# Altium footprint library RCDQLY.PCBLIB: 122 footprints (part 3 of 8)
Each footprint in its own frame and in the unit in brackets; x right, y up, seen from the top. Pads: shape width x height; smd on the part's side, far side on the other; paste and mask are expansions set on the pad; w line width, h text height; cw(c..) or ccw(c..) is an arc to the next point about the centre after c.
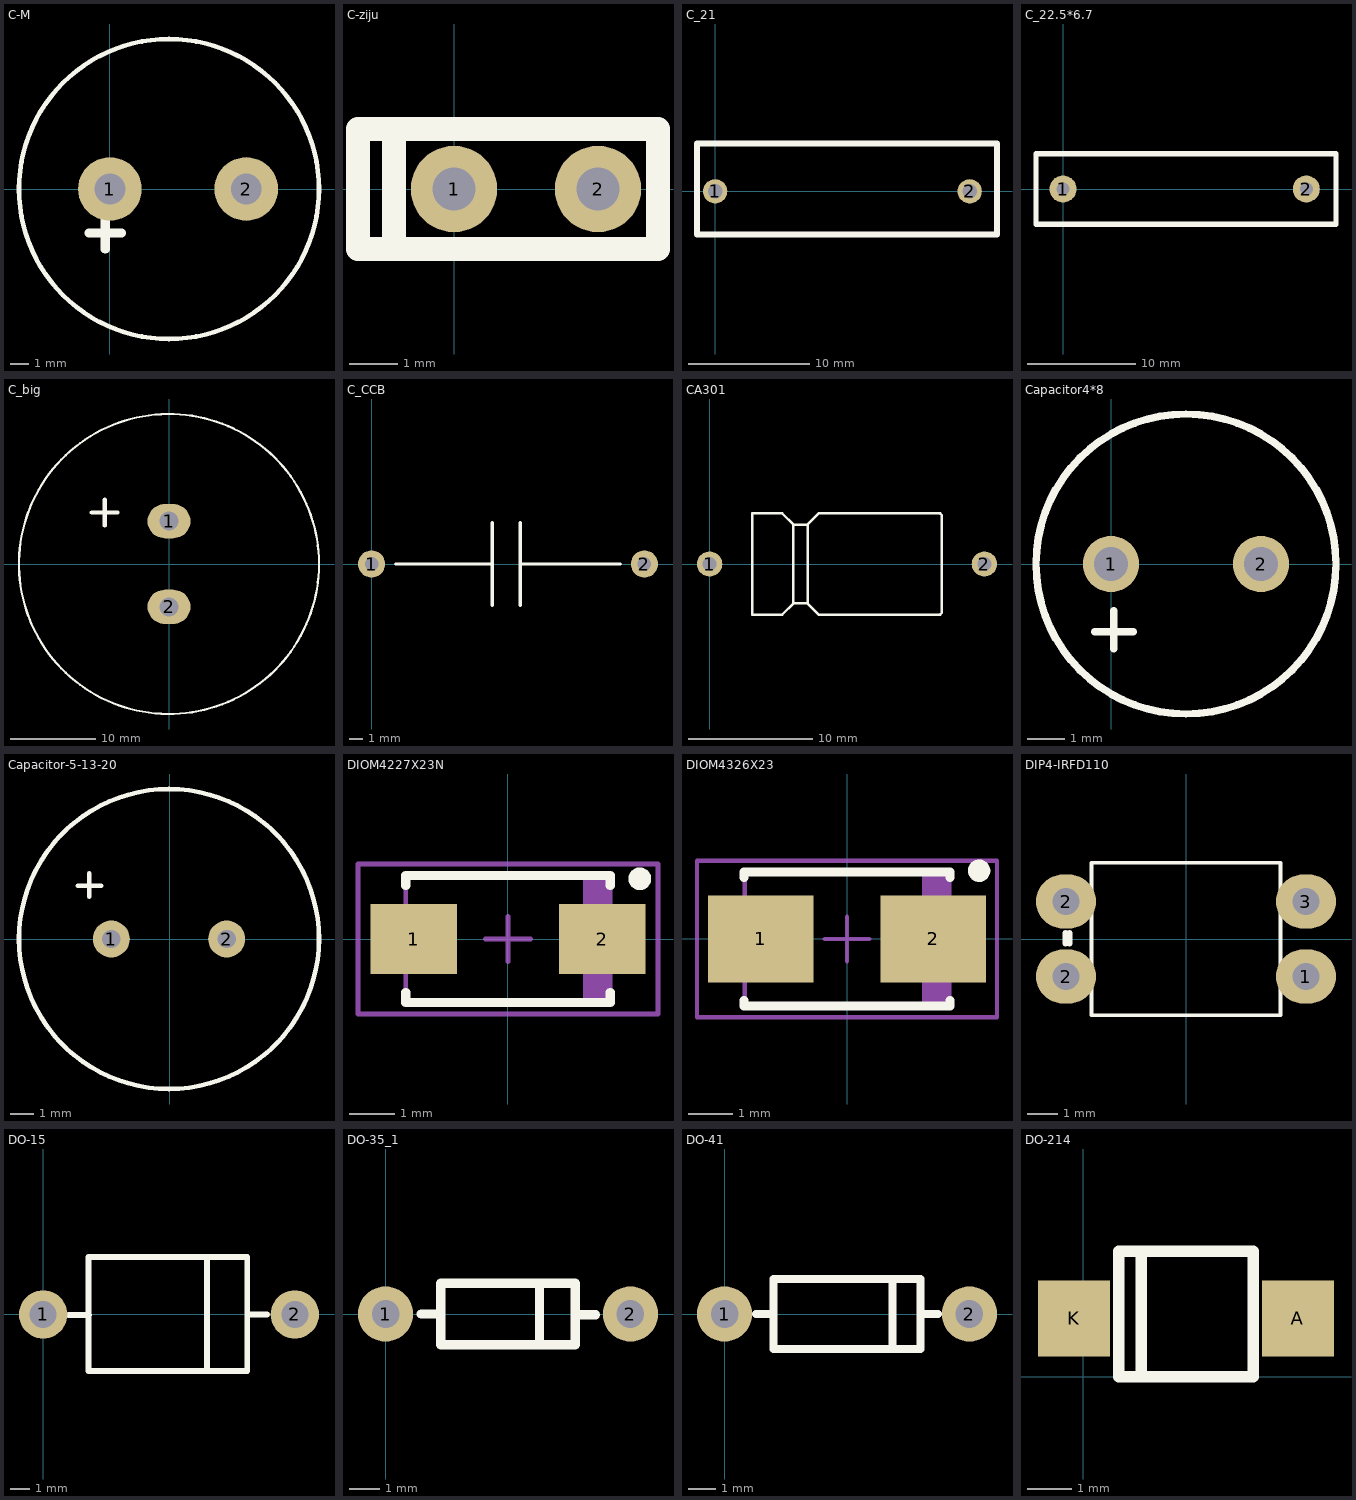
[diagram p2: the footprints below, top view; thin cyan lines are the x and y axes]

## C-M [mm]
pads (2):
  round 3.5 hole 1.7: 1(0,0) 2(7.5,0)
TopOverlay:
  circle w0.254: c3.25,0 r8.25
  lines w0.5: -1.143,-2.413 0.635,-2.413 ; -0.254,-3.302 -0.254,-1.524

## C-ziju [mm]
pads (2):
  round 1.8 hole 0.9: 1(0,0) 2(3,0)
TopOverlay:
  lines w0.5: -2,-1.25 -1.25,-1.25 ; -2,-1.25 -1.25,-1.25 ; -2,-1.25 -2,1.25 -1.25,1.25 ; -1.25,-1.25 -1.25,1.25 ; -1.25,-1.25 4.25,-1.25 4.25,1.25 -1.25,1.25

## C_21 [mm]
pads (2):
  round 2 hole 1.2: 1(0,0) 2(21,0)
TopOverlay:
  lines w0.5: -1.5,-3.556 23.25,-3.556 23.25,3.937 -1.5,3.937 -1.5,-3.556

## C_22.5*6.7 [mm]
pads (2):
  round 2.5 hole 1.2: 1(0,0) 2(22.5,0)
TopOverlay:
  lines w0.5: -2.5,-3.25 -2.5,3.25 25.25,3.25 25.25,-3.25 -2.5,-3.25

## C_big [mm]
pads (2):
  oval 5x4 hole 2.2: 1(0,5) 2(0,-5)
TopOverlay:
  circle w0.254: c0,0 r17.5
  lines w0.5: -9,6 -6,6 ; -7.5,4.5 -7.5,7.5

## C_CCB [mm]
pads (2):
  round 2 hole 1: 1(0,0) 2(20.066,0)
TopOverlay:
  lines w0.254: 1.778,0 8.89,0 ; 8.89,-3.048 8.89,3.048 ; 10.922,-3.048 10.922,3.048 ; 10.922,0 18.288,0

## CA301 [mil]
pads (2):
  round 80 hole 45: 1(0,0) 2(870,0)
TopOverlay:
  lines w8: 265,-115 265,-125 ; 265,-125 310,-125 ; 265,-125 265,125 ; 265,-125 230,-160 135,-160 135,160 230,160 265,125 ; 265,125 305,125 310,125 ; 310,-125 345,-160 730,-160 735,-155 735,155 730,160 345,160 310,125 ; 310,-125 310,125

## Capacitor4*8 [mm]
pads (2):
  round 1.5 hole 0.9: 1(0,0) 2(4,0)
TopOverlay:
  circle w0.2: c2,0 r4
  lines w0.2: -0.429,-1.803 0.587,-1.803 ; 0.076,-2.261 0.076,-1.245

## Capacitor-5-13-20 [mm]
pads (2):
  round 1.6 hole 0.8: 1(-2.54,0) 2(2.46,0)
TopOverlay:
  circle w0.2: c-0.04,0 r6.5
  lines w0.2: -3.988,2.311 -2.972,2.311 ; -3.489,1.829 -3.489,2.845

## DIOM4227X23N [mm] "Molded Diode, 2-Leads, Body 4.2x2.7mm, IPC Medium Density"
height 2.29
pads (2):
  rect 1.9x1.55 smd: 1(-2.075,0) 2(2.075,0)
TopOverlay:
  circle w0.25: c2.9,1.325 r0.125
  lines w0.2: -2.25,-1.175 -2.25,-1.4 2.25,-1.4 2.25,-1.175 ; -2.25,1.175 -2.25,1.4 2.25,1.4 2.25,1.175
Mechanical13:
  rectangle: 1.645,-1.395 2.25,1.395
  lines w0.1: -2.25,-1.395 -2.25,1.395 2.25,1.395 2.25,-1.395 -2.25,-1.395
Mechanical15:
  lines w0.1: -0.5,0 0.5,0 ; 0,-0.5 0,0.5 ; -3.3,-1.65 -3.3,1.65 3.3,1.65 3.3,-1.65 -3.3,-1.65
3D body: height 2.29, standoff 0, extent -2.25,-1.395 2.25,1.395

## DIOM4326X23 [mm] "Molded Diode, 2-Leads, Body 4.3x2.6mm, IPC Medium Density"
height 2.29
pads (2):
  rect 2.35x1.95 smd: 1(-1.925,0) 2(1.925,0)
TopOverlay:
  circle w0.25: c2.95,1.525 r0.125
  lines w0.2: -2.3,-1.375 -2.3,-1.5 2.3,-1.5 2.3,-1.375 ; -2.3,1.375 -2.3,1.5 2.3,1.5 2.3,1.375
Mechanical13:
  rectangle: 1.67,-1.46 2.285,1.46
  lines w0.1: -2.285,-1.46 -2.285,1.46 2.285,1.46 2.285,-1.46 -2.285,-1.46
Mechanical15:
  lines w0.1: -0.5,0 0.5,0 ; 0,-0.5 0,0.5 ; -3.35,-1.75 -3.35,1.75 3.35,1.75 3.35,-1.75 -3.35,-1.75
3D body: height 2.29, standoff 0, extent -2.285,-1.46 2.285,1.46

## DIP4-IRFD110 [mm]
pads (4):
  oval 2x1.8 hole 0.9: 1(4,-1.25) 2(-4,-1.25) 2(-4,1.25) 3(4,1.25)
TopOverlay:
  lines w0.127: 2.616,2.54 2.692,2.54 ; -3.15,-2.54 3.15,-2.54 3.15,2.54 -3.15,2.54 -3.15,-2.54
  lines w0.203: -4.013,-0.152 -4.013,0.203 ; -3.886,-0.152 -3.886,0.203

## DO-15 [mm]
pads (2):
  round 2.5 hole 1.4: 1(0,0) 2(13,0)
TopOverlay:
  lines w0.305: 1.3,-0.025 2.362,-0.025 ; 8.458,-2.896 8.458,2.972 ; 10.719,0 11.564,0 ; 2.337,-2.921 10.541,-2.921 10.541,2.972 2.337,2.972 2.337,-2.921

## DO-35_1 [mm]
pads (2):
  round 1.8 hole 0.9: 1(0,0) 2(8,0)
TopOverlay:
  lines w0.305: 1.168,0 1.803,0 ; 5.029,-1 5.029,1 ; 6.223,-0.025 6.858,-0.025 ; 1.803,-1 1.803,1 6.198,1 6.198,-1 1.803,-1

## DO-41 [mm]
pads (2):
  round 2 hole 1: 1(0,0) 2(8.89,0)
TopOverlay:
  lines w0.305: 1.143,0 1.778,0 ; 6.096,-1.27 6.096,1.27 ; 7.112,0 7.747,0 ; 1.778,-1.27 1.778,1.27 7.112,1.27 7.112,-1.27 1.778,-1.27

## DO-214 [mm]
pads (2):
  rect 1.6x1.7 smd: A(4.8,1.3) K(-0.2,1.3)
TopOverlay:
  lines w0.254: 1.3,0 1.3,2.8 ; 0.8,0 3.8,0 3.8,2.8 0.8,2.8 0.8,0